# EAGLE library part MAX17503ATP+ (library MAX17503ATP+)
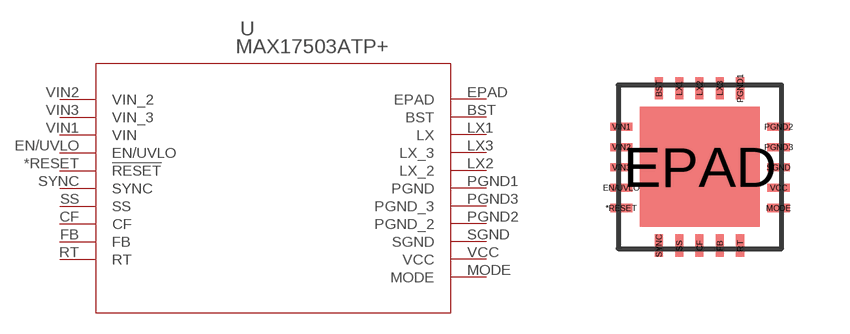
[diagram p0: symbol with the pads of MAX17503ATP+; footprint MAX17503ATP+]

Designator prefix U

## MAX17503ATP+  [MAX17503ATP+]
*RESET  !RESET  out
BST  BST  pas
CF  CF  pas
EN/UVLO  EN/UVLO
EPAD  EPAD  pas
FB  FB  in
LX1  LX  pas
LX2  LX_2  pas
LX3  LX_3  pas
MODE  MODE  pas
PGND1  PGND  pwr
PGND2  PGND_2  pwr
PGND3  PGND_3  pwr
RT  RT  pas
SGND  SGND  pwr
SS  SS  in
SYNC  SYNC  pas
VCC  VCC  pwr
VIN1  VIN  in
VIN2  VIN_2  in
VIN3  VIN_3  in

## Footprint MAX17503ATP+ (pad centres in mm)
smd 0.559 x 0.203: *RESET 0.077,1.016; EN/UVLO 0.077,1.524; MODE 4.012,1.016; PGND2 4.012,3.048; PGND3 4.012,2.54; SGND 4.012,2.032; VCC 4.012,1.524; VIN1 0.077,3.048; VIN2 0.077,2.54; VIN3 0.077,2.032
smd 0.203 x 0.559: BST 1.016,4.012; CF 2.032,0.077; FB 2.54,0.077; LX1 1.524,4.012; LX2 2.032,4.012; LX3 2.54,4.012; PGND1 3.048,4.012; RT 3.048,0.077; SS 1.524,0.077; SYNC 1.016,0.077
smd 3 x 3: EPAD 2.045,2.045